# Altium schematic symbol library Light Sensor Prototype.SchLib: 5 symbols
Pins are listed as number, name and electrical type; pins without a type are passive.

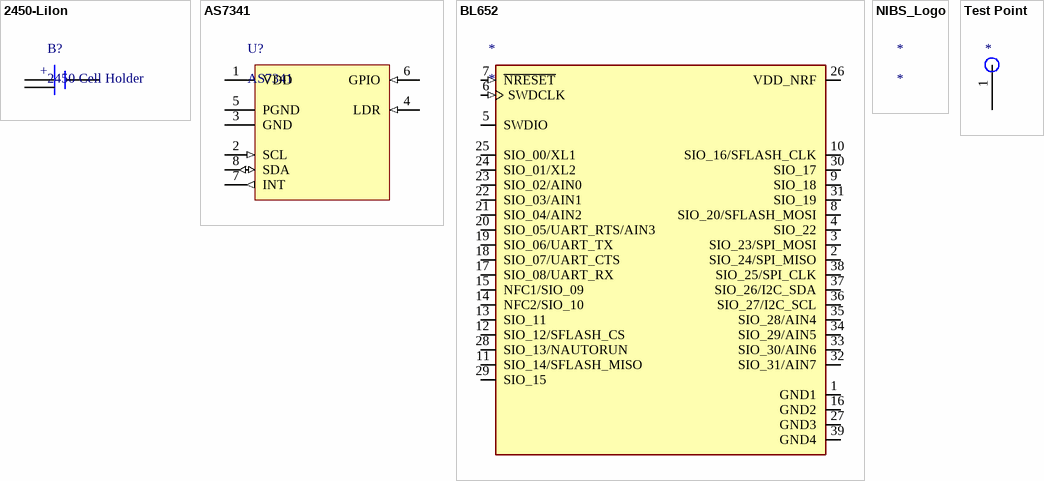
[diagram p0: symbols 2450-LiIon to Test Point]

## 2450-LiIon
designator B?, comment 2450 Cell Holder
Multicomp BC-2404
footprint BC-2404
pins: 1 +, 2 -, 3 +

## AS7341
designator U?
AMS AS7341 / 11-Channel Spectral Sensor Frontend
footprint OLGA8
pins: 1 VDD (power), 2 SCL (in), 3 GND (power), 4 LDR (in), 5 PGND (power), 6 GPIO (in), 7 INT (out), 8 SDA (io)

## BL652
designator *
footprint BL652
pins: 1 GND1 (power), 2 SIO_24/SPI_MISO (io), 3 SIO_23/SPI_MOSI (io), 4 SIO_22 (io), 5 SWDIO (io), 6 SWDCLK (in), 7 ~{NRESET} (in), 8 SIO_20/SFLASH_MOSI (io), 9 SIO_18 (io), 10 SIO_16/SFLASH_CLK (io), 11 SIO_14/SFLASH_MISO (io), 12 SIO_12/SFLASH_CS (io), 13 SIO_11 (io), 14 NFC2/SIO_10 (io), 15 NFC1/SIO_09 (io), 16 GND2 (power), 17 SIO_08/UART_RX (io), 18 SIO_07/UART_CTS (io), 19 SIO_06/UART_TX (io), 20 SIO_05/UART_RTS/AIN3 (io), 21 SIO_04/AIN2 (io), 22 SIO_03/AIN1 (io), 23 SIO_02/AIN0 (io), 24 SIO_01/XL2 (io), 25 SIO_00/XL1 (io), 26 VDD_NRF (power), 27 GND3 (power), 28 SIO_13/NAUTORUN (io), 29 SIO_15 (io), 30 SIO_17 (io), 31 SIO_19 (io), 32 SIO_31/AIN7 (io), 33 SIO_30/AIN6 (io), 34 SIO_29/AIN5 (io), 35 SIO_28/AIN4 (io), 36 SIO_27/I2C_SCL (io), 37 SIO_26/I2C_SDA (io), 38 SIO_25/SPI_CLK (io), 39 GND4 (power)

## NIBS_Logo
designator *
footprint Logo

## Test Point
designator *  (value not drawn)
footprint TP
pins: 1 TP